# EAGLE library part SAMC21G* (library mcu)
edit this description Auto generated by make-symbol-device-package-bsdl.ulp Rev. 44 Source: Connect-List generated from SAMC21G.DEV Variant '' with connect-device-split-symbol.ulp
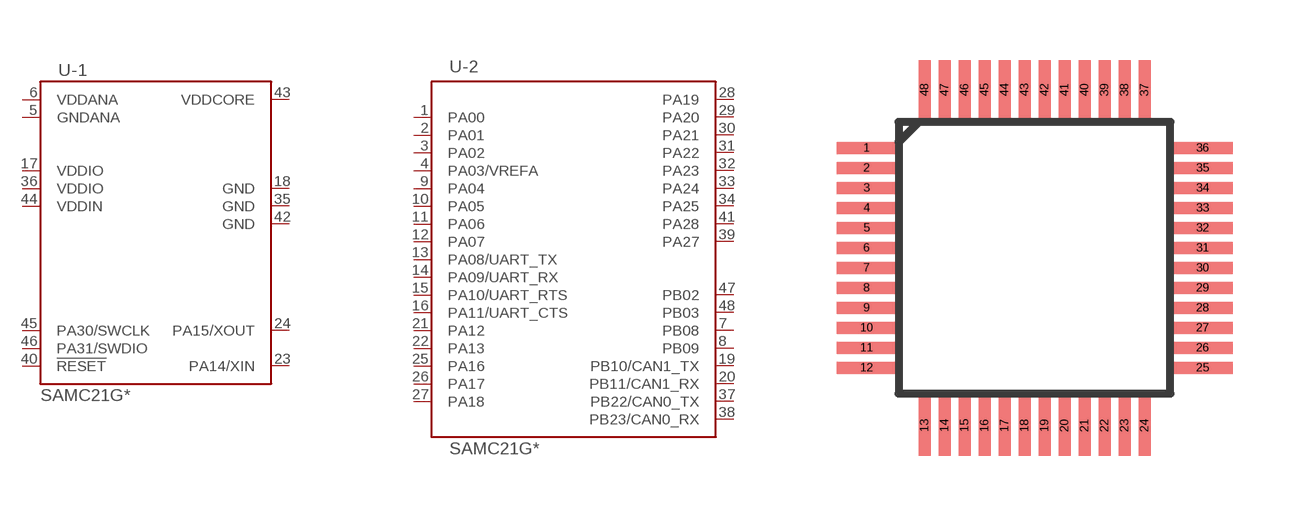
[diagram p5: symbol with the pads of TQFP48; footprint TQFP48]

Designator prefix U; gates -1=SAMC21G.POWER -2=SAMC21G.IO

## SAMC21G15-AUT, SAMC21G16-AUT, SAMC21G17-AUT, SAMC21G18-AUT  [TQFP48]
1  -2:PA00
2  -2:PA01
3  -2:PA02
4  -2:PA03/VREFA
5  -1:GNDANA  pwr
6  -1:VDDANA  pwr
7  -2:PB08
8  -2:PB09
9  -2:PA04
10  -2:PA05
11  -2:PA06
12  -2:PA07
13  -2:PA08/UART_TX
14  -2:PA09/UART_RX
15  -2:PA10/UART_RTS
16  -2:PA11/UART_CTS
17  -1:VDDIO  pwr
18  -1:GND  pwr
19  -2:PB10/CAN1_TX
20  -2:PB11/CAN1_RX
21  -2:PA12
22  -2:PA13
23  -1:PA14/XIN
24  -1:PA15/XOUT
25  -2:PA16
26  -2:PA17
27  -2:PA18
28  -2:PA19
29  -2:PA20
30  -2:PA21
31  -2:PA22
32  -2:PA23
33  -2:PA24
34  -2:PA25
35  -1:GND  pwr
36  -1:VDDIO  pwr
37  -2:PB22/CAN0_TX
38  -2:PB23/CAN0_RX
39  -2:PA27
40  -1:!RESET  in
41  -2:PA28
42  -1:GND  pwr
43  -1:VDDCORE  pwr
44  -1:VDDIN  pwr
45  -1:PA30/SWCLK
46  -1:PA31/SWDIO
47  -2:PB02
48  -2:PB03

## Footprint TQFP48 (pad centres in mm)
TQFP48 Auto generated by make-symbol-device-package-bsdl.ulp Rev. 44
smd 1.5 x 0.3: 1 -4.2,2.75; 2 -4.2,2.25; 3 -4.2,1.75; 4 -4.2,1.25; 5 -4.2,0.75; 6 -4.2,0.25; 7 -4.2,-0.25; 8 -4.2,-0.75; 9 -4.2,-1.25; 10 -4.2,-1.75; 11 -4.2,-2.25; 12 -4.2,-2.75; 25 4.2,-2.75; 26 4.2,-2.25; 27 4.2,-1.75; 28 4.2,-1.25; 29 4.2,-0.75; 30 4.2,-0.25; 31 4.2,0.25; 32 4.2,0.75; 33 4.2,1.25; 34 4.2,1.75; 35 4.2,2.25; 36 4.2,2.75
smd 0.3 x 1.5: 13 -2.75,-4.2; 14 -2.25,-4.2; 15 -1.75,-4.2; 16 -1.25,-4.2; 17 -0.75,-4.2; 18 -0.25,-4.2; 19 0.25,-4.2; 20 0.75,-4.2; 21 1.25,-4.2; 22 1.75,-4.2; 23 2.25,-4.2; 24 2.75,-4.2; 37 2.75,4.2; 38 2.25,4.2; 39 1.75,4.2; 40 1.25,4.2; 41 0.75,4.2; 42 0.25,4.2; 43 -0.25,4.2; 44 -0.75,4.2; 45 -1.25,4.2; 46 -1.75,4.2; 47 -2.25,4.2; 48 -2.75,4.2